# Altium schematic symbol library Inductance.SchLib: 2 symbols
Pins are listed as number, name and electrical type; pins without a type are passive.

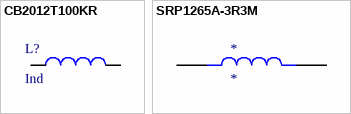
[diagram p0: symbols CB2012T100KR to SRP1265A-3R3M]

## CB2012T100KR
designator L?, comment Ind
footprint CB2012T100KR
pins: 1, 2

## SRP1265A-3R3M
designator *
footprint SRP1265A-3R3M
pins: 1, 2